# Altium schematic symbol library NLV32T-151J-EFD.SchLib: 2 symbols
Pins are listed as number, name and electrical type; pins without a type are passive.

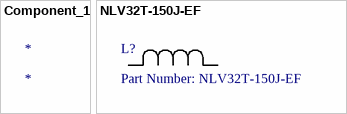
[diagram p0: symbols Component_1 to NLV32T-150J-EF]

## Component_1
designator *

## NLV32T-150J-EF
designator L?, comment Part Number: NLV32T-150J-EF
No Description Available; Vendor: TDK; Built_By: EMA_UL_Team; Type: DEV; Manufacturer_Part_Number: NLV32T-150J-EF; Copyright: Copyright (C) 2018 Accelerated Designs. All rights reserved; RefDes: RefDes; Value: Value
footprint IND_NLV32T
pins: 1, 2